# Altium schematic symbol library thermostat_main.SCHLIB: 38 symbols
Pins are listed as number, name and electrical type; pins without a type are passive.

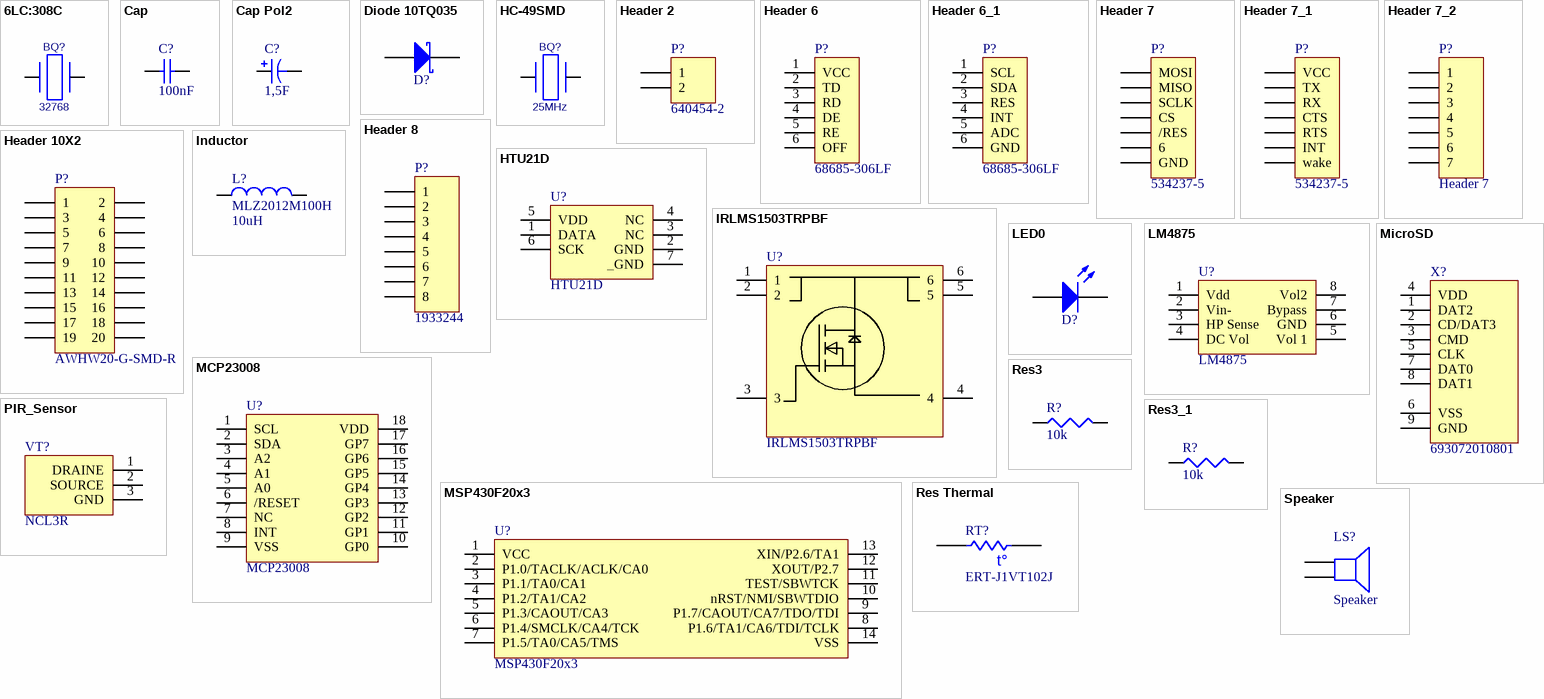
[diagram p0: symbols 6LC:308C to Speaker]

## 6LC:308C
designator BQ?, comment value 32768  (hidden comment: ABS07-32.768KHZ-T)
CRYSTAL 32.768KHZ 12.5PF SMD
pins: 1, 2

## Cap
designator C?, comment value 100nF  (hidden comment: CC0603ZRY5V9BB104)
CAP CER 0.1UF 50V Y5V 0603
pins: 1, 2

## Cap Pol2
designator C?, comment value 1,5F  (hidden comment: EMHSR-0001C5-005R0)
CAP SUPER 1.5F 5.0V RADIAL
pins: 1, 2
1 alternate drawing of the same symbol

## Diode 10TQ035
designator D?, comment CDBU0520  (value not drawn)
DIODE SCHOTTKY 20V 500MA 0603
pins: 1 K, 3 A

## HC-49SMD
designator BQ?, comment value 25MHz  (hidden comment: ECS-250-8-30B-CKM)
CRYSTAL 25.000MHZ 8PF SMD
pins: 1, 2

## Header 2
designator P?, comment 640454-2
CONN HEADER VERT 2POS .100 TIN
pins: 1, 2

## Header 6
designator P?, comment 68685-306LF
CONN RCPT 6POS .100" SNG ROW
pins: 1 VCC, 2 TD, 3 RD, 4 DE, 5 RE, 6 OFF

## Header 6_1
designator P?, comment 68685-306LF
CONN RCPT 6POS .100" SNG ROW
pins: 1 SCL, 2 SDA, 3 RES, 4 INT, 5 ADC, 6 GND

## Header 7
designator P?, comment 534237-5
CONN RECEPT 7POS .100 VERT AU
pins: 1 MOSI, 2 MISO, 3 SCLK, 4 CS, 5 /RES, 6, 7 GND

## Header 7_1
designator P?, comment 534237-5
CONN RECEPT 7POS .100 VERT AU
pins: 1 VCC, 2 TX, 3 RX, 4 CTS, 5 RTS, 6 INT, 7 wake

## Header 7_2
designator P?, comment Header 7
Header, 7-Pin; LatestRevisionDate: 17-Jul-2002; LatestRevisionNote: Re-released for DXP Platform.; Publisher: Altium Limited
footprint HDR1X7 (Connector; Header; 7 Position)
signal-integrity model Connector
pins: 1, 2, 3, 4, 5, 6, 7

## Header 8
designator P?, comment 1933244
TERM BLOCK HEADER 8POS 5MM BLACK
pins: 1, 2, 3, 4, 5, 6, 7, 8

## Header 10X2
designator P?, comment AWHW20-G-SMD-R
CONN HEADER LO-PRO 20POS AU SMD; LatestRevisionDate: 17-Jul-2002; LatestRevisionNote: Re-released for DXP Platform.; Publisher: Altium Limited
footprint HDR2X10 (Connector; Header; 10x2 Position)
signal-integrity model Connector
pins: 1, 2, 3, 4, 5, 6, 7, 8, 9, 10, 11, 12, 13, 14, 15, 16, 17, 18, 19, 20

## HTU21D
designator U?
Miniature Relative Humidity and Temperature Sensor; datasheet: http://www.meas-spec.com/downloads/HTU21D.pdf
pins: 1 DATA, 2 GND, 3 NC, 4 NC, 5 VDD, 6 SCK, 7 _GND

## Inductor
designator L?, comment MLZ2012M100H  value 10uH
INDUCTOR MULTILAYER 10UH 0805
pins: 1, 2

## IRLMS1503TRPBF
designator U?
N-Channel MOSFET; datasheet: http://www.irf.com/product-info/datasheets/data/irlms1503pbf.pdf
pins: 1, 2, 3, 4, 5, 6

## LED0
designator D?, comment LTST-C190GKT  (value not drawn)
LED GREEN CLEAR 0603 SMD
pins: 1 A, 2 K

## LM4875
designator U?
750 mW Audio Power Amplifier with DC Volume  Control; datasheet: http://www.ti.com/lit/ds/symlink/lm4875.pdf
pins: 1 Vdd, 2 Vin-, 3 HP Sense, 4 DC Vol, 5 Vol 1, 6 GND, 7 Bypass, 8 Vol2

## MCP23008
designator U?
8-Bit I/O Expander with Serial Interface; datasheet: http://ww1.microchip.com/downloads/en/DeviceDoc/21919e.pdf
pins: 1 SCL, 2 SDA, 3 A2, 4 A1, 5 A0, 6 /RESET, 7 NC, 8 INT, 9 VSS, 10 GP0, 11 GP1, 12 GP2, 13 GP3, 14 GP4, 15 GP5, 16 GP6, 17 GP7, 18 VDD

## MicroSD
designator X?, comment 693072010801
CONN MICRO SD 8 POS SMD
pins: 1 DAT2, 2 CD/DAT3, 3 CMD, 4 VDD, 5 CLK, 6 VSS, 7 DAT0, 8 DAT1, 9 GND

## MSP430F20x3
designator U?
MIXED SIGNAL MICROCONTROLLER; datasheet: http://www.ti.com/lit/ds/symlink/msp430f2013.pdf
pins: 1 VCC, 2 P1.0/TACLK/ACLK/CA0, 3 P1.1/TA0/CA1, 4 P1.2/TA1/CA2, 5 P1.3/CAOUT/CA3, 6 P1.4/SMCLK/CA4/TCK, 7 P1.5/TA0/CA5/TMS, 8 P1.6/TA1/CA6/TDI/TCLK, 9 P1.7/CAOUT/CA7/TDO/TDI, 10 nRST/NMI/SBWTDIO, 11 TEST/SBWTCK, 12 XOUT/P2.7, 13 XIN/P2.6/TA1, 14 VSS

## PIR_Sensor
designator VT?, comment NCL3R
PIR sensor
pins: 1 DRAINE, 2 SOURCE, 3 GND

## Res3
designator R?  value 10k  (hidden comment: Res3)
Resistor; Published: 8-Jun-2000; LatestRevisionDate: 29-May-2009; LatestRevisionNote: IPC-7351 Footprint Added.; PackageReference: J1-0603; Publisher: Altium Limited; PackageDescription: Chip Resistor
footprint J1-0603 (Chip Resistor, Body 1.6x0.8mm, IPC High Density)
footprint 14-1210 (Chip Resistor, Body 3.2x2.5mm, IPC High Density)
footprint 12Z-2010 (Chip Resistor, Body 5.0x2.5mm, IPC High Density)
footprint RESC6332 (Chip Resistor, Body 6.3x3.2mm, IPC High Density)
simulation model RESISTOR (Resistor)
signal-integrity model Res
pins: 1, 2

## Res3_1
designator R?, comment value 10k  (hidden comment: RC0603JR-0710KL)
RES 10K OHM 1/10W 5% 0603 SMD
pins: 1, 2

## Res Thermal
designator RT?, comment ERT-J1VT102J
THERMISTOR NTC 1K OHM 5% 0603
footprint 6-0805_M (Chip Resistor, Body 2.0x1.2mm, IPC Low Density)
pins: 1, 2
text: t°

## Speaker
designator LS?
Loudspeaker; Published: 24-Mar-1999; LatestRevisionDate: 17-Jul-2002; LatestRevisionNote: Re-released for DXP Platform.; PackageReference: PIN2; Publisher: Altium Limited
footprint PIN2 (Loudspeaker; 2 Leads)
pins: 1, 2

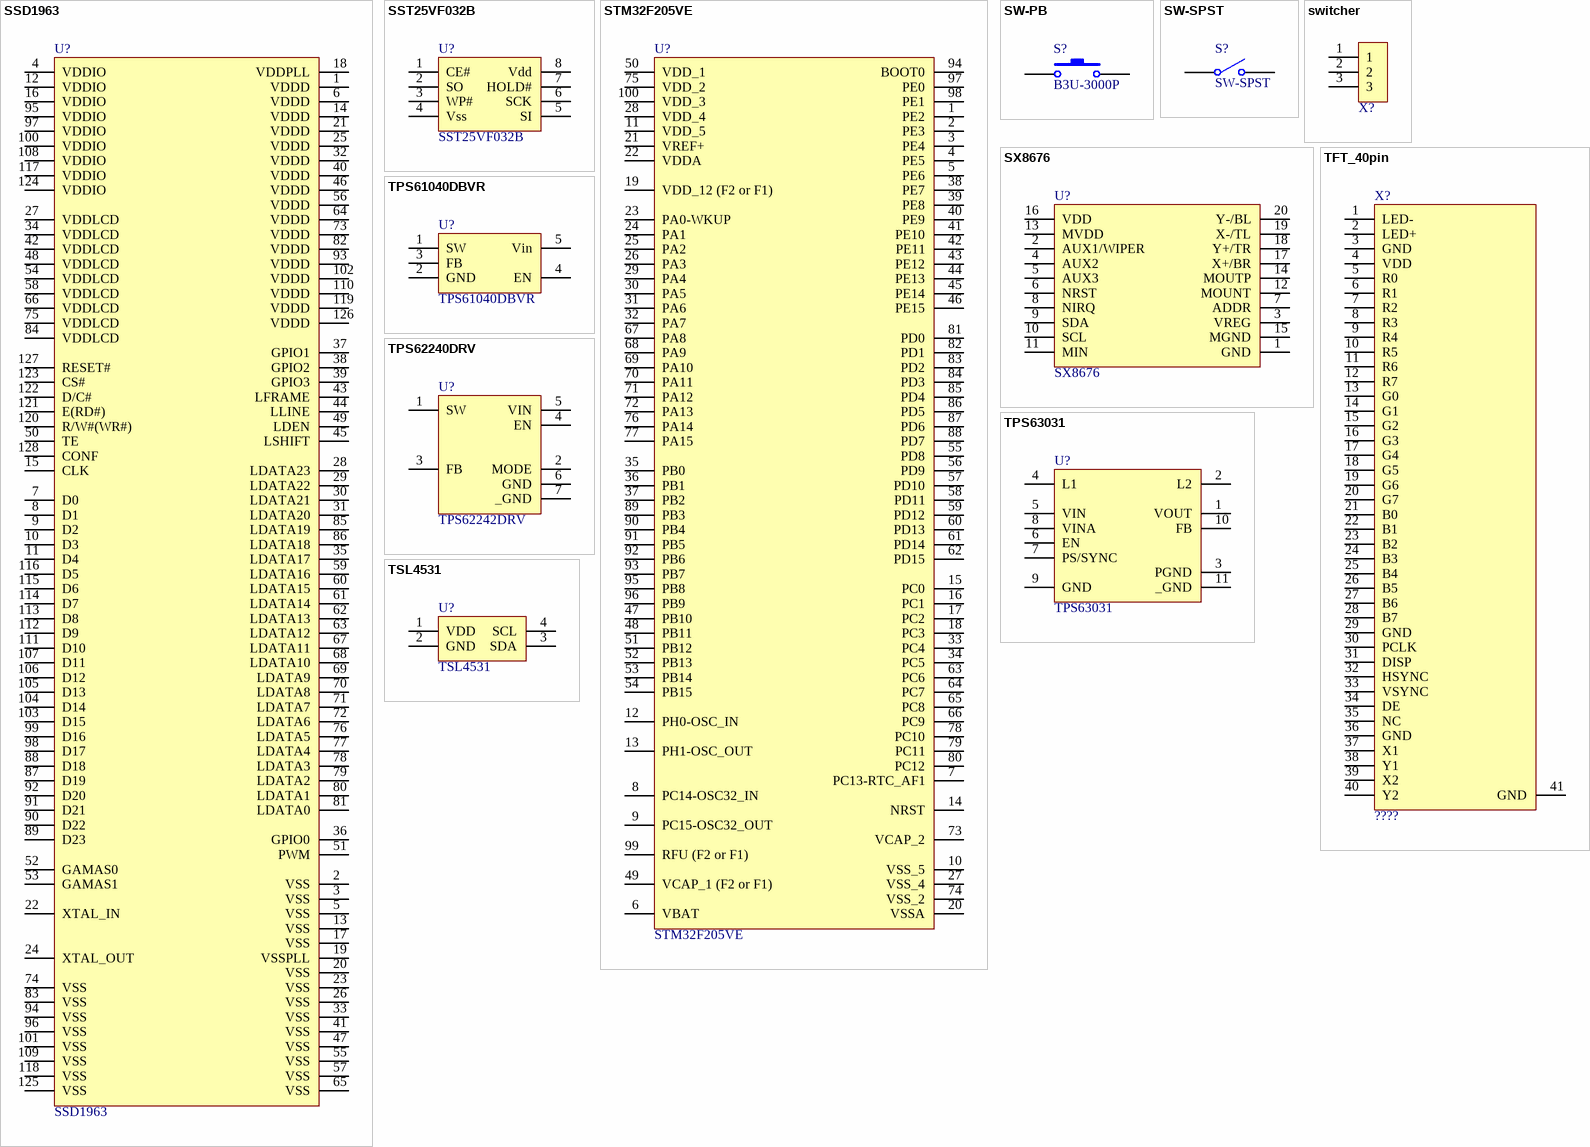
[diagram p1: symbols SSD1963 to TSL4531]

## SSD1963
designator U?
1215KB Embedded Display SRAM   LCD Display Controller; datasheet: http://www.techtoys.com.hk/Components/SSD1963QL9/SSD1963_1.1.pdf
pins: 1 VDDD, 2 VSS, 3 VSS, 4 VDDIO, 5 VSS, 6 VDDD, 7 D0, 8 D1, 9 D2, 10 D3, 11 D4, 12 VDDIO, 13 VSS, 14 VDDD, 15 CLK, 16 VDDIO, 17 VSS, 18 VDDPLL, 19 VSSPLL, 20 VSS, 21 VDDD, 22 XTAL_IN, 23 VSS, 24 XTAL_OUT, 25 VDDD, 26 VSS, 27 VDDLCD, 28 LDATA23, 29 LDATA22, 30 LDATA21, 31 LDATA20, 32 VDDD, 33 VSS, 34 VDDLCD, 35 LDATA17, 36 GPIO0, 37 GPIO1, 38 GPIO2, 39 GPIO3, 40 VDDD, 41 VSS, 42 VDDLCD, 43 LFRAME, 44 LLINE, 45 LSHIFT, 46 VDDD, 47 VSS, 48 VDDLCD, 49 LDEN, 50 TE, 51 PWM, 52 GAMAS0, 53 GAMAS1, 54 VDDLCD, 55 VSS, 56 VDDD, 57 VSS, 58 VDDLCD, 59 LDATA16, 60 LDATA15, 61 LDATA14, 62 LDATA13, 63 LDATA12, 64 VDDD, 65 VSS, 66 VDDLCD, 67 LDATA11, 68 LDATA10, 69 LDATA9, 70 LDATA8, 71 LDATA7, 72 LDATA6, 73 VDDD, 74 VSS, 75 VDDLCD, 76 LDATA5, 77 LDATA4, 78 LDATA3, 79 LDATA2, 80 LDATA1, 81 LDATA0, 82 VDDD, 83 VSS, 84 VDDLCD, 85 LDATA19, 86 LDATA18, 87 D19, 88 D18, 89 D23, 90 D22, 91 D21, 92 D20, 93 VDDD, 94 VSS, 95 VDDIO, 96 VSS, 97 VDDIO, 98 D17, 99 D16, 100 VDDIO, 101 VSS, 102 VDDD, 103 D15, 104 D14, 105 D13, 106 D12, 107 D11, 108 VDDIO, 109 VSS, 110 VDDD, 111 D10, 112 D9, 113 D8, 114 D7, 115 D6, 116 D5, 117 VDDIO, 118 VSS, 119 VDDD, 120 R/W#(WR#), 121 E(RD#), 122 D/C#, 123 CS#, 124 VDDIO, 125 VSS, 126 VDDD, 127 RESET#, 128 CONF

## SST25VF032B
designator U?
32 Mbit SPI Serial Flash; datasheet: http://www.sst.com/dotAsset/40373.pdf
pins: 1 CE#, 2 SO, 3 WP#, 4 Vss, 5 SI, 6 SCK, 7 HOLD#, 8 Vdd

## STM32F205VE
designator U?
ARM-based 32-bit MCU, 150DMIPs, up to 1 MB Flash/128+4KB RAM, USB   OTG HS/FS, Ethernet, 17 TIMs, 3 ADCs, 15 comm. interfaces & camera; datasheet: http://www.st.com/internet/com/TECHNICAL_RESOURCES/TECHNICAL_LITERATURE/DATASHEET/CD00237391.pdf
pins: 1 PE2, 2 PE3, 3 PE4, 4 PE5, 5 PE6, 6 VBAT, 7 PC13-RTC_AF1, 8 PC14-OSC32_IN, 9 PC15-OSC32_OUT, 10 VSS_5, 11 VDD_5, 12 PH0-OSC_IN, 13 PH1-OSC_OUT, 14 NRST, 15 PC0, 16 PC1, 17 PC2, 18 PC3, 19 VDD_12 (F2 or F1), 20 VSSA, 21 VREF+, 22 VDDA, 23 PA0-WKUP, 24 PA1, 25 PA2, 26 PA3, 27 VSS_4, 28 VDD_4, 29 PA4, 30 PA5, 31 PA6, 32 PA7, 33 PC4, 34 PC5, 35 PB0, 36 PB1, 37 PB2, 38 PE7, 39 PE8, 40 PE9, 41 PE10, 42 PE11, 43 PE12, 44 PE13, 45 PE14, 46 PE15, 47 PB10, 48 PB11, 49 VCAP_1 (F2 or F1), 50 VDD_1, 51 PB12, 52 PB13, 53 PB14, 54 PB15, 55 PD8, 56 PD9, 57 PD10, 58 PD11, 59 PD12, 60 PD13, 61 PD14, 62 PD15, 63 PC6, 64 PC7, 65 PC8, 66 PC9, 67 PA8, 68 PA9, 69 PA10, 70 PA11, 71 PA12, 72 PA13, 73 VCAP_2, 74 VSS_2, 75 VDD_2, 76 PA14, 77 PA15, 78 PC10, 79 PC11, 80 PC12, 81 PD0, 82 PD1, 83 PD2, 84 PD3, 85 PD4, 86 PD5, 87 PD6, 88 PD7, 89 PB3, 90 PB4, 91 PB5, 92 PB6, 93 PB7, 94 BOOT0, 95 PB8, 96 PB9, 97 PE0, 98 PE1, 99 RFU (F2 or F1), 100 VDD_3

## SW-PB
designator S?, comment B3U-3000P
SWITCH TACTILE SPST-NO 0.05A 12V
pins: 1, 2

## SW-SPST
designator S?
Single-Pole, Single-Throw Switch; Published: 24-Mar-1999; LatestRevisionDate: 17-Jul-2002; LatestRevisionNote: Re-released for DXP Platform.; PackageReference: SPST-2; Publisher: Altium Limited; PackageDescription: Switch; 2 Leads
footprint SPST-2 (Switch; 2 Leads)
pins: 1 COMMON, 2 NO

## switcher
designator X?, comment 640453-3  (value not drawn)
CONN HEADER RTANG 3POS .100 TIN
pins: 1, 2, 3

## SX8676
designator U?
Haptics Enabled Multitouch 4/5-Wire   Resistive Touchscreen Controller with Proximity Sensing; datasheet: http://www.semtech.com/images/datasheet/sx867x.pdf
pins: 1 GND, 2 AUX1/WIPER, 3 VREG, 4 AUX2, 5 AUX3, 6 NRST, 7 ADDR, 8 NIRQ, 9 SDA, 10 SCL, 11 MIN, 12 MOUNT, 13 MVDD, 14 MOUTP, 15 MGND, 16 VDD, 17 X+/BR, 18 Y+/TR, 19 X-/TL, 20 Y-/BL

## TFT_40pin
designator X?, comment ????
FPC 0,5 MR-10B
pins: 1 LED-, 2 LED+, 3 GND, 4 VDD, 5 R0, 6 R1, 7 R2, 8 R3, 9 R4, 10 R5, 11 R6, 12 R7, 13 G0, 14 G1, 15 G2, 16 G3, 17 G4, 18 G5, 19 G6, 20 G7, 21 B0, 22 B1, 23 B2, 24 B3, 25 B4, 26 B5, 27 B6, 28 B7, 29 GND, 30 PCLK, 31 DISP, 32 HSYNC, 33 VSYNC, 34 DE, 35 NC, 36 GND, 37 X1, 38 Y1, 39 X2, 40 Y2, 41 GND

## TPS61040DBVR
designator U?
LOW-POWER DC/DC BOOST CONVERTER IN SOT-23 AND SON PACKAGES; datasheet: http://www.ti.com/lit/ds/symlink/tps61041.pdf
pins: 1 SW, 2 GND, 3 FB, 4 EN, 5 Vin

## TPS62240DRV
designator U?, comment TPS62242DRV
2.25 MHz 300 mA Step Down Converter in 2x2SON/TSOT23 Package; datasheet: http://www.ti.com/lit/ds/symlink/tps62240.pdf
pins: 1 SW, 2 MODE, 3 FB, 4 EN, 5 VIN, 6 GND, 7 _GND

## TPS63031
designator U?
HIGH EFFICIENCY SINGLE INDUCTOR BUCK-BOOST CONVERTER WITH 1-A SWITCHES; datasheet: http://www.ti.com/lit/ds/symlink/tps63031.pdf
pins: 1 VOUT, 2 L2, 3 PGND, 4 L1, 5 VIN, 6 EN, 7 PS/SYNC, 8 VINA, 9 GND, 10 FB, 11 _GND

## TSL4531
designator U?
DIGITAL AMBIENT LIGHT SENSOR
pins: 1 VDD, 2 GND, 3 SDA, 4 SCL